# Altium schematic symbol library WE-KI.SchLib: 314 symbols (part 5 of 6)
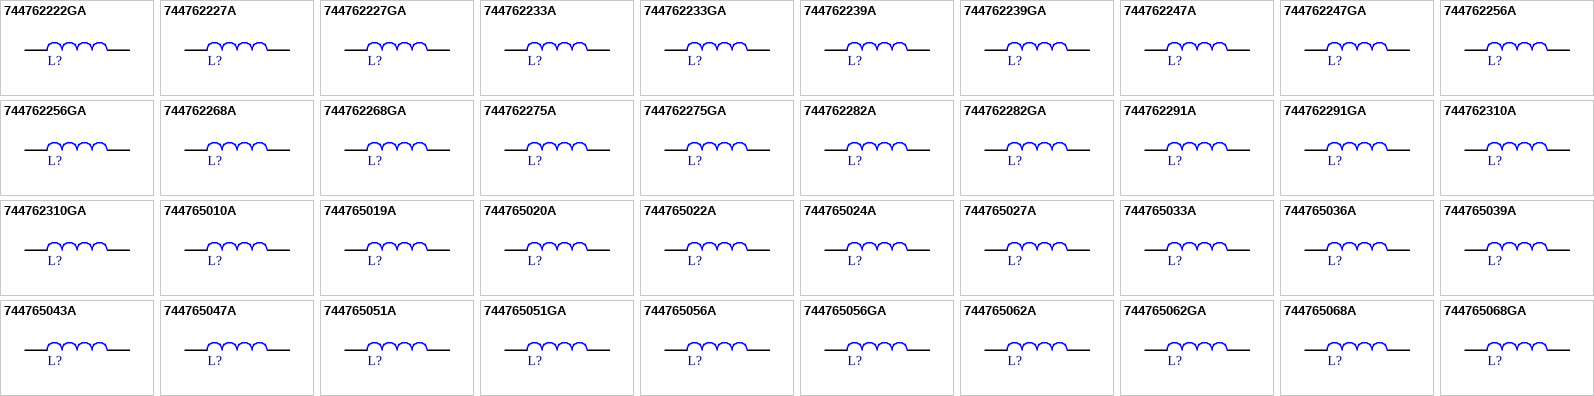
[diagram p11: symbols 744762222GA to 744765068GA]

## 744765024A
designator L?, comment 2.4nH  (value not drawn)
WE-KI SMT Wire Wound Ceramic Inductor, size 0402, 2.4nH, 0.79A, 0.068Ω; Manufacturer Part Number: 744765024A; Manufacturer: Wurth Elektronik; Case/Size Code: 0402; Inductance Tolerance: +/-0.2nH; Q Factor: 16; Self Resonant Frequency: 6000MHz; Category: RF Inductors; Match Code: WE-KI; ComponentLink1Description: Website Link; ComponentLink1URL: https://www.we-online.com/redexpert/article/744765024A?ad; ComponentLink2Description: Datasheet Link; ComponentLink2URL: https://www.we-online.com/redexpert/spec/744765024A?ad; Mount: Surface Mount; Operating Temperature Max: 125°C; Operating Temperature Min: -40°C; Packaging: Tape and Reel; Length: 1mm; Width: 0.55mm; Height: 0.5mm; DC Resistance Max: 0.068Ω; Inductance: 2.4nH; Rated Current: 0.79A
footprint WE-KI_0402
simulation model 0402_744765024A_2.4n
pins: 1, 2

## 744765027A
designator L?, comment 2.7nH  (value not drawn)
WE-KI SMT Wire Wound Ceramic Inductor, size 0402, 2.7nH, 0.64A, 0.12Ω; Manufacturer Part Number: 744765027A; Manufacturer: Wurth Elektronik; Case/Size Code: 0402; Inductance Tolerance: +/-0.2nH; Q Factor: 16; Self Resonant Frequency: 6000MHz; Category: RF Inductors; Match Code: WE-KI; ComponentLink1Description: Website Link; ComponentLink1URL: https://www.we-online.com/redexpert/article/744765027A?ad; ComponentLink2Description: Datasheet Link; ComponentLink2URL: https://www.we-online.com/redexpert/spec/744765027A?ad; Mount: Surface Mount; Operating Temperature Max: 125°C; Operating Temperature Min: -40°C; Packaging: Tape and Reel; Length: 1mm; Width: 0.55mm; Height: 0.5mm; DC Resistance Max: 0.12Ω; Inductance: 2.7nH; Rated Current: 0.64A
footprint WE-KI_0402
simulation model 0402_744765027A_2.7n
pins: 1, 2

## 744765033A
designator L?, comment 3.3nH  (value not drawn)
WE-KI SMT Wire Wound Ceramic Inductor, size 0402, 3.3nH, 0.84A, 0.066Ω; Manufacturer Part Number: 744765033A; Manufacturer: Wurth Elektronik; Case/Size Code: 0402; Inductance Tolerance: +/-5%; Q Factor: 20; Self Resonant Frequency: 6000MHz; Category: RF Inductors; Match Code: WE-KI; ComponentLink1Description: Website Link; ComponentLink1URL: https://www.we-online.com/redexpert/article/744765033A?ad; ComponentLink2Description: Datasheet Link; ComponentLink2URL: https://www.we-online.com/redexpert/spec/744765033A?ad; Mount: Surface Mount; Operating Temperature Max: 125°C; Operating Temperature Min: -40°C; Packaging: Tape and Reel; Length: 1mm; Width: 0.55mm; Height: 0.5mm; DC Resistance Max: 0.066Ω; Inductance: 3.3nH; Rated Current: 0.84A
footprint WE-KI_0402
simulation model 0402_744765033A_3.3n
pins: 1, 2

## 744765036A
designator L?, comment 3.6nH  (value not drawn)
WE-KI SMT Wire Wound Ceramic Inductor, size 0402, 3.6nH, 0.84A, 0.066Ω; Manufacturer Part Number: 744765036A; Manufacturer: Wurth Elektronik; Case/Size Code: 0402; Inductance Tolerance: +/-5%; Q Factor: 20; Self Resonant Frequency: 6000MHz; Category: RF Inductors; Match Code: WE-KI; ComponentLink1Description: Website Link; ComponentLink1URL: https://www.we-online.com/redexpert/article/744765036A?ad; ComponentLink2Description: Datasheet Link; ComponentLink2URL: https://www.we-online.com/redexpert/spec/744765036A?ad; Mount: Surface Mount; Operating Temperature Max: 125°C; Operating Temperature Min: -40°C; Packaging: Tape and Reel; Length: 1mm; Width: 0.55mm; Height: 0.5mm; DC Resistance Max: 0.066Ω; Inductance: 3.6nH; Rated Current: 0.84A
footprint WE-KI_0402
simulation model 0402_744765036A_3.6n
pins: 1, 2

## 744765039A
designator L?, comment 3.9nH  (value not drawn)
WE-KI SMT Wire Wound Ceramic Inductor, size 0402, 3.9nH, 0.84A, 0.066Ω; Manufacturer Part Number: 744765039A; Manufacturer: Wurth Elektronik; Case/Size Code: 0402; Inductance Tolerance: +/-5%; Q Factor: 20; Self Resonant Frequency: 5800MHz; Category: RF Inductors; Match Code: WE-KI; ComponentLink1Description: Website Link; ComponentLink1URL: https://www.we-online.com/redexpert/article/744765039A?ad; ComponentLink2Description: Datasheet Link; ComponentLink2URL: https://www.we-online.com/redexpert/spec/744765039A?ad; Mount: Surface Mount; Operating Temperature Max: 125°C; Operating Temperature Min: -40°C; Packaging: Tape and Reel; Length: 1mm; Width: 0.55mm; Height: 0.5mm; DC Resistance Max: 0.066Ω; Inductance: 3.9nH; Rated Current: 0.84A
footprint WE-KI_0402
simulation model 0402_744765039A_3.9n
pins: 1, 2

## 744765043A
designator L?, comment 4.3nH  (value not drawn)
WE-KI SMT Wire Wound Ceramic Inductor, size 0402, 4.3nH, 0.7A, 0.091Ω; Manufacturer Part Number: 744765043A; Manufacturer: Wurth Elektronik; Case/Size Code: 0402; Inductance Tolerance: +/-5%; Q Factor: 18; Self Resonant Frequency: 6000MHz; Category: RF Inductors; Match Code: WE-KI; ComponentLink1Description: Website Link; ComponentLink1URL: https://www.we-online.com/redexpert/article/744765043A?ad; ComponentLink2Description: Datasheet Link; ComponentLink2URL: https://www.we-online.com/redexpert/spec/744765043A?ad; Mount: Surface Mount; Operating Temperature Max: 125°C; Operating Temperature Min: -40°C; Packaging: Tape and Reel; Length: 1mm; Width: 0.55mm; Height: 0.5mm; DC Resistance Max: 0.091Ω; Inductance: 4.3nH; Rated Current: 0.7A
footprint WE-KI_0402
simulation model 0402_744765043A_4.3n
pins: 1, 2

## 744765047A
designator L?, comment 4.7nH  (value not drawn)
WE-KI SMT Wire Wound Ceramic Inductor, size 0402, 4.7nH, 0.64A, 0.13Ω; Manufacturer Part Number: 744765047A; Manufacturer: Wurth Elektronik; Case/Size Code: 0402; Inductance Tolerance: +/-5%; Q Factor: 15; Self Resonant Frequency: 4775MHz; Category: RF Inductors; Match Code: WE-KI; ComponentLink1Description: Website Link; ComponentLink1URL: https://www.we-online.com/redexpert/article/744765047A?ad; ComponentLink2Description: Datasheet Link; ComponentLink2URL: https://www.we-online.com/redexpert/spec/744765047A?ad; Mount: Surface Mount; Operating Temperature Max: 125°C; Operating Temperature Min: -40°C; Packaging: Tape and Reel; Length: 1mm; Width: 0.55mm; Height: 0.5mm; DC Resistance Max: 0.13Ω; Inductance: 4.7nH; Rated Current: 0.64A
footprint WE-KI_0402
simulation model 0402_744765047A_4.7n
pins: 1, 2

## 744765051A
designator L?, comment 5.1nH  (value not drawn)
WE-KI SMT Wire Wound Ceramic Inductor, size 0402, 5.1nH, 0.8A, 0.083Ω; Manufacturer Part Number: 744765051A; Manufacturer: Wurth Elektronik; Case/Size Code: 0402; Inductance Tolerance: +/-5%; Q Factor: 23; Self Resonant Frequency: 5800MHz; Category: RF Inductors; Match Code: WE-KI; ComponentLink1Description: Website Link; ComponentLink1URL: https://www.we-online.com/redexpert/article/744765051A?ad; ComponentLink2Description: Datasheet Link; ComponentLink2URL: https://www.we-online.com/redexpert/spec/744765051A?ad; Mount: Surface Mount; Operating Temperature Max: 125°C; Operating Temperature Min: -40°C; Packaging: Tape and Reel; Length: 1mm; Width: 0.55mm; Height: 0.5mm; DC Resistance Max: 0.083Ω; Inductance: 5.1nH; Rated Current: 0.8A
footprint WE-KI_0402
simulation model 0402_744765051A_5.1n
pins: 1, 2

## 744765051GA
designator L?, comment 5.1nH  (value not drawn)
WE-KI SMT Wire Wound Ceramic Inductor, size 0402, 5.1nH, 0.8A, 0.083Ω; Manufacturer Part Number: 744765051GA; Manufacturer: Wurth Elektronik; Case/Size Code: 0402; Inductance Tolerance: +/-0.2nH; Q Factor: 23; Self Resonant Frequency: 5800MHz; Category: RF Inductors; Match Code: WE-KI; ComponentLink1Description: Website Link; ComponentLink1URL: https://www.we-online.com/redexpert/article/744765051GA?ad; ComponentLink2Description: Datasheet Link; ComponentLink2URL: https://www.we-online.com/redexpert/spec/744765051GA?ad; Mount: Surface Mount; Operating Temperature Max: 125°C; Operating Temperature Min: -40°C; Packaging: Tape and Reel; Length: 1mm; Width: 0.55mm; Height: 0.5mm; DC Resistance Max: 0.083Ω; Inductance: 5.1nH; Rated Current: 0.8A
footprint WE-KI_0402
simulation model 0402_744765051GA_5.1n
pins: 1, 2

## 744765056A
designator L?, comment 5.6nH  (value not drawn)
WE-KI SMT Wire Wound Ceramic Inductor, size 0402, 5.6nH, 0.76A, 0.083Ω; Manufacturer Part Number: 744765056A; Manufacturer: Wurth Elektronik; Case/Size Code: 0402; Inductance Tolerance: +/-5%; Q Factor: 23; Self Resonant Frequency: 5800MHz; Category: RF Inductors; Match Code: WE-KI; ComponentLink1Description: Website Link; ComponentLink1URL: https://www.we-online.com/redexpert/article/744765056A?ad; ComponentLink2Description: Datasheet Link; ComponentLink2URL: https://www.we-online.com/redexpert/spec/744765056A?ad; Mount: Surface Mount; Operating Temperature Max: 125°C; Operating Temperature Min: -40°C; Packaging: Tape and Reel; Length: 1mm; Width: 0.55mm; Height: 0.5mm; DC Resistance Max: 0.083Ω; Inductance: 5.6nH; Rated Current: 0.76A
footprint WE-KI_0402
simulation model 0402_744765056A_5.6n
pins: 1, 2

## 744765056GA
designator L?, comment 5.6nH  (value not drawn)
WE-KI SMT Wire Wound Ceramic Inductor, size 0402, 5.6nH, 0.76A, 0.083Ω; Manufacturer Part Number: 744765056GA; Manufacturer: Wurth Elektronik; Case/Size Code: 0402; Inductance Tolerance: +/-0.2nH; Q Factor: 23; Self Resonant Frequency: 5800MHz; Category: RF Inductors; Match Code: WE-KI; ComponentLink1Description: Website Link; ComponentLink1URL: https://www.we-online.com/redexpert/article/744765056GA?ad; ComponentLink2Description: Datasheet Link; ComponentLink2URL: https://www.we-online.com/redexpert/spec/744765056GA?ad; Mount: Surface Mount; Operating Temperature Max: 125°C; Operating Temperature Min: -40°C; Packaging: Tape and Reel; Length: 1mm; Width: 0.55mm; Height: 0.5mm; DC Resistance Max: 0.083Ω; Inductance: 5.6nH; Rated Current: 0.76A
footprint WE-KI_0402
simulation model 0402_744765056GA_5.6n
pins: 1, 2

## 744765062A
designator L?, comment 6.2nH  (value not drawn)
WE-KI SMT Wire Wound Ceramic Inductor, size 0402, 6.2nH, 0.76A, 0.083Ω; Manufacturer Part Number: 744765062A; Manufacturer: Wurth Elektronik; Case/Size Code: 0402; Inductance Tolerance: +/-5%; Q Factor: 23; Self Resonant Frequency: 5800MHz; Category: RF Inductors; Match Code: WE-KI; ComponentLink1Description: Website Link; ComponentLink1URL: https://www.we-online.com/redexpert/article/744765062A?ad; ComponentLink2Description: Datasheet Link; ComponentLink2URL: https://www.we-online.com/redexpert/spec/744765062A?ad; Mount: Surface Mount; Operating Temperature Max: 125°C; Operating Temperature Min: -40°C; Packaging: Tape and Reel; Length: 1mm; Width: 0.55mm; Height: 0.5mm; DC Resistance Max: 0.083Ω; Inductance: 6.2nH; Rated Current: 0.76A
footprint WE-KI_0402
simulation model 0402_744765062A_6.2n
pins: 1, 2

## 744765062GA
designator L?, comment 6.2nH  (value not drawn)
WE-KI SMT Wire Wound Ceramic Inductor, size 0402, 6.2nH, 0.75A, 0.083Ω; Manufacturer Part Number: 744765062GA; Manufacturer: Wurth Elektronik; Case/Size Code: 0402; Inductance Tolerance: +/-0.2nH; Q Factor: 23; Self Resonant Frequency: 5800MHz; Category: RF Inductors; Match Code: WE-KI; ComponentLink1Description: Website Link; ComponentLink1URL: https://www.we-online.com/redexpert/article/744765062GA?ad; ComponentLink2Description: Datasheet Link; ComponentLink2URL: https://www.we-online.com/redexpert/spec/744765062GA?ad; Mount: Surface Mount; Operating Temperature Max: 125°C; Operating Temperature Min: -40°C; Packaging: Tape and Reel; Length: 1mm; Width: 0.55mm; Height: 0.5mm; DC Resistance Max: 0.083Ω; Inductance: 6.2nH; Rated Current: 0.75A
footprint WE-KI_0402
simulation model 0402_744765062GA_6.2n
pins: 1, 2

## 744765068A
designator L?, comment 6.8nH  (value not drawn)
WE-KI SMT Wire Wound Ceramic Inductor, size 0402, 6.8nH, 0.68A, 0.083Ω; Manufacturer Part Number: 744765068A; Manufacturer: Wurth Elektronik; Case/Size Code: 0402; Inductance Tolerance: +/-5%; Q Factor: 20; Self Resonant Frequency: 4800MHz; Category: RF Inductors; Match Code: WE-KI; ComponentLink1Description: Website Link; ComponentLink1URL: https://www.we-online.com/redexpert/article/744765068A?ad; ComponentLink2Description: Datasheet Link; ComponentLink2URL: https://www.we-online.com/redexpert/spec/744765068A?ad; Mount: Surface Mount; Operating Temperature Max: 125°C; Operating Temperature Min: -40°C; Packaging: Tape and Reel; Length: 1mm; Width: 0.55mm; Height: 0.5mm; DC Resistance Max: 0.083Ω; Inductance: 6.8nH; Rated Current: 0.68A
footprint WE-KI_0402
simulation model 0402_744765068A_6.8n
pins: 1, 2

## 744765068GA
designator L?, comment 6.8nH  (value not drawn)
WE-KI SMT Wire Wound Ceramic Inductor, size 0402, 6.8nH, 0.68A, 0.083Ω; Manufacturer Part Number: 744765068GA; Manufacturer: Wurth Elektronik; Case/Size Code: 0402; Inductance Tolerance: +/-0.2nH; Q Factor: 20; Self Resonant Frequency: 4800MHz; Category: RF Inductors; Match Code: WE-KI; ComponentLink1Description: Website Link; ComponentLink1URL: https://www.we-online.com/redexpert/article/744765068GA?ad; ComponentLink2Description: Datasheet Link; ComponentLink2URL: https://www.we-online.com/redexpert/spec/744765068GA?ad; Mount: Surface Mount; Operating Temperature Max: 125°C; Operating Temperature Min: -40°C; Packaging: Tape and Reel; Length: 1mm; Width: 0.55mm; Height: 0.5mm; DC Resistance Max: 0.083Ω; Inductance: 6.8nH; Rated Current: 0.68A
footprint WE-KI_0402
simulation model 0402_744765068GA_6.8n
pins: 1, 2

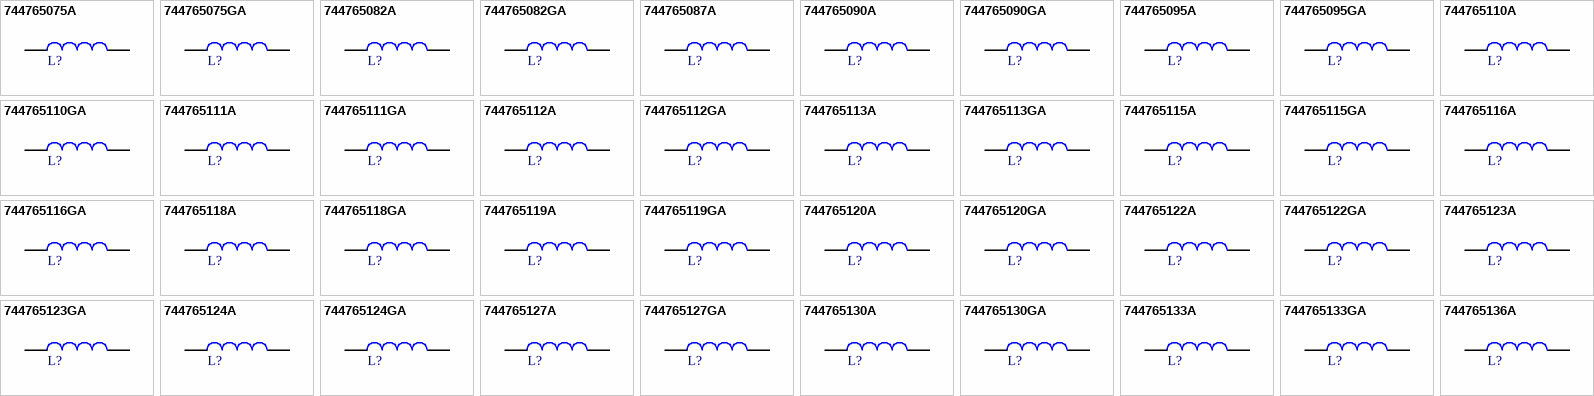
[diagram p6: symbols 744765075A to 744765136A]

## 744765075A
designator L?, comment 7.5nH  (value not drawn)
WE-KI SMT Wire Wound Ceramic Inductor, size 0402, 7.5nH, 0.68A, 0.104Ω; Manufacturer Part Number: 744765075A; Manufacturer: Wurth Elektronik; Case/Size Code: 0402; Inductance Tolerance: +/-5%; Q Factor: 25; Self Resonant Frequency: 5800MHz; Category: RF Inductors; Match Code: WE-KI; ComponentLink1Description: Website Link; ComponentLink1URL: https://www.we-online.com/redexpert/article/744765075A?ad; ComponentLink2Description: Datasheet Link; ComponentLink2URL: https://www.we-online.com/redexpert/spec/744765075A?ad; Mount: Surface Mount; Operating Temperature Max: 125°C; Operating Temperature Min: -40°C; Packaging: Tape and Reel; Length: 1mm; Width: 0.55mm; Height: 0.5mm; DC Resistance Max: 0.104Ω; Inductance: 7.5nH; Rated Current: 0.68A
footprint WE-KI_0402
simulation model 0402_744765075A_7.5n
pins: 1, 2

## 744765075GA
designator L?, comment 7.5nH  (value not drawn)
WE-KI SMT Wire Wound Ceramic Inductor, size 0402, 7.5nH, 0.68A, 0.104Ω; Manufacturer Part Number: 744765075GA; Manufacturer: Wurth Elektronik; Case/Size Code: 0402; Inductance Tolerance: +/-0.2nH; Q Factor: 25; Self Resonant Frequency: 5800MHz; Category: RF Inductors; Match Code: WE-KI; ComponentLink1Description: Website Link; ComponentLink1URL: https://www.we-online.com/redexpert/article/744765075GA?ad; ComponentLink2Description: Datasheet Link; ComponentLink2URL: https://www.we-online.com/redexpert/spec/744765075GA?ad; Mount: Surface Mount; Operating Temperature Max: 125°C; Operating Temperature Min: -40°C; Packaging: Tape and Reel; Length: 1mm; Width: 0.55mm; Height: 0.5mm; DC Resistance Max: 0.104Ω; Inductance: 7.5nH; Rated Current: 0.68A
footprint WE-KI_0402
simulation model 0402_744765075GA_7.5n
pins: 1, 2

## 744765082A
designator L?, comment 8.2nH  (value not drawn)
WE-KI SMT Wire Wound Ceramic Inductor, size 0402, 8.2nH, 0.68A, 0.104Ω; Manufacturer Part Number: 744765082A; Manufacturer: Wurth Elektronik; Case/Size Code: 0402; Inductance Tolerance: +/-5%; Q Factor: 25; Self Resonant Frequency: 4400MHz; Category: RF Inductors; Match Code: WE-KI; ComponentLink1Description: Website Link; ComponentLink1URL: https://www.we-online.com/redexpert/article/744765082A?ad; ComponentLink2Description: Datasheet Link; ComponentLink2URL: https://www.we-online.com/redexpert/spec/744765082A?ad; Mount: Surface Mount; Operating Temperature Max: 125°C; Operating Temperature Min: -40°C; Packaging: Tape and Reel; Length: 1mm; Width: 0.55mm; Height: 0.5mm; DC Resistance Max: 0.104Ω; Inductance: 8.2nH; Rated Current: 0.68A
footprint WE-KI_0402
simulation model 0402_744765082A_8.2n
pins: 1, 2

## 744765082GA
designator L?, comment 8.2nH  (value not drawn)
WE-KI SMT Wire Wound Ceramic Inductor, size 0402, 8.2nH, 0.68A, 0.104Ω; Manufacturer Part Number: 744765082GA; Manufacturer: Wurth Elektronik; Case/Size Code: 0402; Inductance Tolerance: +/-0.2nH; Q Factor: 25; Self Resonant Frequency: 4400MHz; Category: RF Inductors; Match Code: WE-KI; ComponentLink1Description: Website Link; ComponentLink1URL: https://www.we-online.com/redexpert/article/744765082GA?ad; ComponentLink2Description: Datasheet Link; ComponentLink2URL: https://www.we-online.com/redexpert/spec/744765082GA?ad; Mount: Surface Mount; Operating Temperature Max: 125°C; Operating Temperature Min: -40°C; Packaging: Tape and Reel; Length: 1mm; Width: 0.55mm; Height: 0.5mm; DC Resistance Max: 0.104Ω; Inductance: 8.2nH; Rated Current: 0.68A
footprint WE-KI_0402
simulation model 0402_744765082GA_8.2n
pins: 1, 2

## 744765087A
designator L?, comment 8.7nH  (value not drawn)
WE-KI SMT Wire Wound Ceramic Inductor, size 0402, 8.7nH, 0.48A, 0.2Ω; Manufacturer Part Number: 744765087A; Manufacturer: Wurth Elektronik; Case/Size Code: 0402; Inductance Tolerance: +/-5%; Q Factor: 18; Self Resonant Frequency: 4100MHz; Category: RF Inductors; Match Code: WE-KI; ComponentLink1Description: Website Link; ComponentLink1URL: https://www.we-online.com/redexpert/article/744765087A?ad; ComponentLink2Description: Datasheet Link; ComponentLink2URL: https://www.we-online.com/redexpert/spec/744765087A?ad; Mount: Surface Mount; Operating Temperature Max: 125°C; Operating Temperature Min: -40°C; Packaging: Tape and Reel; Length: 1mm; Width: 0.55mm; Height: 0.5mm; DC Resistance Max: 0.2Ω; Inductance: 8.7nH; Rated Current: 0.48A
footprint WE-KI_0402
simulation model 0402_744765087A_8.7n
pins: 1, 2

## 744765090A
designator L?, comment 9nH  (value not drawn)
WE-KI SMT Wire Wound Ceramic Inductor, size 0402, 9nH, 0.68A, 0.104Ω; Manufacturer Part Number: 744765090A; Manufacturer: Wurth Elektronik; Case/Size Code: 0402; Inductance Tolerance: +/-5%; Q Factor: 25; Self Resonant Frequency: 4160MHz; Category: RF Inductors; Match Code: WE-KI; ComponentLink1Description: Website Link; ComponentLink1URL: https://www.we-online.com/redexpert/article/744765090A?ad; ComponentLink2Description: Datasheet Link; ComponentLink2URL: https://www.we-online.com/redexpert/spec/744765090A?ad; Mount: Surface Mount; Operating Temperature Max: 125°C; Operating Temperature Min: -40°C; Packaging: Tape and Reel; Length: 1mm; Width: 0.55mm; Height: 0.5mm; DC Resistance Max: 0.104Ω; Inductance: 9nH; Rated Current: 0.68A
footprint WE-KI_0402
simulation model 0402_744765090A_9n
pins: 1, 2

## 744765090GA
designator L?, comment 9nH  (value not drawn)
WE-KI SMT Wire Wound Ceramic Inductor, size 0402, 9nH, 0.68A, 0.104Ω; Manufacturer Part Number: 744765090GA; Manufacturer: Wurth Elektronik; Case/Size Code: 0402; Inductance Tolerance: +/-0.2nH; Q Factor: 25; Self Resonant Frequency: 4160MHz; Category: RF Inductors; Match Code: WE-KI; ComponentLink1Description: Website Link; ComponentLink1URL: https://www.we-online.com/redexpert/article/744765090GA?ad; ComponentLink2Description: Datasheet Link; ComponentLink2URL: https://www.we-online.com/redexpert/spec/744765090GA?ad; Mount: Surface Mount; Operating Temperature Max: 125°C; Operating Temperature Min: -40°C; Packaging: Tape and Reel; Length: 1mm; Width: 0.55mm; Height: 0.5mm; DC Resistance Max: 0.104Ω; Inductance: 9nH; Rated Current: 0.68A
footprint WE-KI_0402
simulation model 0402_744765090GA_9n
pins: 1, 2

## 744765095A
designator L?, comment 9.5nH  (value not drawn)
WE-KI SMT Wire Wound Ceramic Inductor, size 0402, 9.5nH, 0.68A, 0.2Ω; Manufacturer Part Number: 744765095A; Manufacturer: Wurth Elektronik; Case/Size Code: 0402; Inductance Tolerance: +/-5%; Q Factor: 18; Self Resonant Frequency: 4000MHz; Category: RF Inductors; Match Code: WE-KI; ComponentLink1Description: Website Link; ComponentLink1URL: https://www.we-online.com/redexpert/article/744765095A?ad; ComponentLink2Description: Datasheet Link; ComponentLink2URL: https://www.we-online.com/redexpert/spec/744765095A?ad; Mount: Surface Mount; Operating Temperature Max: 125°C; Operating Temperature Min: -40°C; Packaging: Tape and Reel; Length: 1mm; Width: 0.55mm; Height: 0.5mm; DC Resistance Max: 0.2Ω; Inductance: 9.5nH; Rated Current: 0.68A
footprint WE-KI_0402
simulation model 0402_744765095A_9.5n
pins: 1, 2

## 744765095GA
designator L?, comment 9.5nH  (value not drawn)
WE-KI SMT Wire Wound Ceramic Inductor, size 0402, 9.5nH, 0.68A, 0.2Ω; Manufacturer Part Number: 744765095GA; Manufacturer: Wurth Elektronik; Case/Size Code: 0402; Inductance Tolerance: +/-0.2nH; Q Factor: 18; Self Resonant Frequency: 4000MHz; Category: RF Inductors; Match Code: WE-KI; ComponentLink1Description: Website Link; ComponentLink1URL: https://www.we-online.com/redexpert/article/744765095GA?ad; ComponentLink2Description: Datasheet Link; ComponentLink2URL: https://www.we-online.com/redexpert/spec/744765095GA?ad; Mount: Surface Mount; Operating Temperature Max: 125°C; Operating Temperature Min: -40°C; Packaging: Tape and Reel; Length: 1mm; Width: 0.55mm; Height: 0.5mm; DC Resistance Max: 0.2Ω; Inductance: 9.5nH; Rated Current: 0.68A
footprint WE-KI_0402
simulation model 0402_744765095GA_9.5n
pins: 1, 2

## 744765110A
designator L?, comment 10nH  (value not drawn)
WE-KI SMT Wire Wound Ceramic Inductor, size 0402, 10nH, 0.48A, 0.195Ω; Manufacturer Part Number: 744765110A; Manufacturer: Wurth Elektronik; Case/Size Code: 0402; Inductance Tolerance: +/-5%; Q Factor: 23; Self Resonant Frequency: 3900MHz; Category: RF Inductors; Match Code: WE-KI; ComponentLink1Description: Website Link; ComponentLink1URL: https://www.we-online.com/redexpert/article/744765110A?ad; ComponentLink2Description: Datasheet Link; ComponentLink2URL: https://www.we-online.com/redexpert/spec/744765110A?ad; Mount: Surface Mount; Operating Temperature Max: 125°C; Operating Temperature Min: -40°C; Packaging: Tape and Reel; Length: 1mm; Width: 0.55mm; Height: 0.5mm; DC Resistance Max: 0.195Ω; Inductance: 10nH; Rated Current: 0.48A
footprint WE-KI_0402
simulation model 0402_744765110A_10n
pins: 1, 2

## 744765110GA
designator L?, comment 10nH  (value not drawn)
WE-KI SMT Wire Wound Ceramic Inductor, size 0402, 10nH, 0.48A, 0.195Ω; Manufacturer Part Number: 744765110GA; Manufacturer: Wurth Elektronik; Case/Size Code: 0402; Inductance Tolerance: +/-2%; Q Factor: 23; Self Resonant Frequency: 3900MHz; Category: RF Inductors; Match Code: WE-KI; ComponentLink1Description: Website Link; ComponentLink1URL: https://www.we-online.com/redexpert/article/744765110GA?ad; ComponentLink2Description: Datasheet Link; ComponentLink2URL: https://www.we-online.com/redexpert/spec/744765110GA?ad; Mount: Surface Mount; Operating Temperature Max: 125°C; Operating Temperature Min: -40°C; Packaging: Tape and Reel; Length: 1mm; Width: 0.55mm; Height: 0.5mm; DC Resistance Max: 0.195Ω; Inductance: 10nH; Rated Current: 0.48A
footprint WE-KI_0402
simulation model 0402_744765110GA_10n
pins: 1, 2

## 744765111A
designator L?, comment 11nH  (value not drawn)
WE-KI SMT Wire Wound Ceramic Inductor, size 0402, 11nH, 0.64A, 0.12Ω; Manufacturer Part Number: 744765111A; Manufacturer: Wurth Elektronik; Case/Size Code: 0402; Inductance Tolerance: +/-5%; Q Factor: 26; Self Resonant Frequency: 3680MHz; Category: RF Inductors; Match Code: WE-KI; ComponentLink1Description: Website Link; ComponentLink1URL: https://www.we-online.com/redexpert/article/744765111A?ad; ComponentLink2Description: Datasheet Link; ComponentLink2URL: https://www.we-online.com/redexpert/spec/744765111A?ad; Mount: Surface Mount; Operating Temperature Max: 125°C; Operating Temperature Min: -40°C; Packaging: Tape and Reel; Length: 1mm; Width: 0.55mm; Height: 0.5mm; DC Resistance Max: 0.12Ω; Inductance: 11nH; Rated Current: 0.64A
footprint WE-KI_0402
simulation model 0402_744765111A_11n
pins: 1, 2

## 744765111GA
designator L?, comment 11nH  (value not drawn)
WE-KI SMT Wire Wound Ceramic Inductor, size 0402, 11nH, 0.64A, 0.12Ω; Manufacturer Part Number: 744765111GA; Manufacturer: Wurth Elektronik; Case/Size Code: 0402; Inductance Tolerance: +/-2%; Q Factor: 26; Self Resonant Frequency: 3680MHz; Category: RF Inductors; Match Code: WE-KI; ComponentLink1Description: Website Link; ComponentLink1URL: https://www.we-online.com/redexpert/article/744765111GA?ad; ComponentLink2Description: Datasheet Link; ComponentLink2URL: https://www.we-online.com/redexpert/spec/744765111GA?ad; Mount: Surface Mount; Operating Temperature Max: 125°C; Operating Temperature Min: -40°C; Packaging: Tape and Reel; Length: 1mm; Width: 0.55mm; Height: 0.5mm; DC Resistance Max: 0.12Ω; Inductance: 11nH; Rated Current: 0.64A
footprint WE-KI_0402
simulation model 0402_744765111GA_11n
pins: 1, 2

## 744765112A
designator L?, comment 12nH  (value not drawn)
WE-KI SMT Wire Wound Ceramic Inductor, size 0402, 12nH, 0.64A, 0.12Ω; Manufacturer Part Number: 744765112A; Manufacturer: Wurth Elektronik; Case/Size Code: 0402; Inductance Tolerance: +/-5%; Q Factor: 26; Self Resonant Frequency: 3600MHz; Category: RF Inductors; Match Code: WE-KI; ComponentLink1Description: Website Link; ComponentLink1URL: https://www.we-online.com/redexpert/article/744765112A?ad; ComponentLink2Description: Datasheet Link; ComponentLink2URL: https://www.we-online.com/redexpert/spec/744765112A?ad; Mount: Surface Mount; Operating Temperature Max: 125°C; Operating Temperature Min: -40°C; Packaging: Tape and Reel; Length: 1mm; Width: 0.55mm; Height: 0.5mm; DC Resistance Max: 0.12Ω; Inductance: 12nH; Rated Current: 0.64A
footprint WE-KI_0402
simulation model 0402_744765112A_12n
pins: 1, 2

## 744765112GA
designator L?, comment 12nH  (value not drawn)
WE-KI SMT Wire Wound Ceramic Inductor, size 0402, 12nH, 0.64A, 0.12Ω; Manufacturer Part Number: 744765112GA; Manufacturer: Wurth Elektronik; Case/Size Code: 0402; Inductance Tolerance: +/-2%; Q Factor: 26; Self Resonant Frequency: 3600MHz; Category: RF Inductors; Match Code: WE-KI; ComponentLink1Description: Website Link; ComponentLink1URL: https://www.we-online.com/redexpert/article/744765112GA?ad; ComponentLink2Description: Datasheet Link; ComponentLink2URL: https://www.we-online.com/redexpert/spec/744765112GA?ad; Mount: Surface Mount; Operating Temperature Max: 125°C; Operating Temperature Min: -40°C; Packaging: Tape and Reel; Length: 1mm; Width: 0.55mm; Height: 0.5mm; DC Resistance Max: 0.12Ω; Inductance: 12nH; Rated Current: 0.64A
footprint WE-KI_0402
simulation model 0402_744765112GA_12n
pins: 1, 2

## 744765113A
designator L?, comment 13nH  (value not drawn)
WE-KI SMT Wire Wound Ceramic Inductor, size 0402, 13nH, 0.56A, 0.21Ω; Manufacturer Part Number: 744765113A; Manufacturer: Wurth Elektronik; Case/Size Code: 0402; Inductance Tolerance: +/-5%; Q Factor: 24; Self Resonant Frequency: 3450MHz; Category: RF Inductors; Match Code: WE-KI; ComponentLink1Description: Website Link; ComponentLink1URL: https://www.we-online.com/redexpert/article/744765113A?ad; ComponentLink2Description: Datasheet Link; ComponentLink2URL: https://www.we-online.com/redexpert/spec/744765113A?ad; Mount: Surface Mount; Operating Temperature Max: 125°C; Operating Temperature Min: -40°C; Packaging: Tape and Reel; Length: 1mm; Width: 0.55mm; Height: 0.5mm; DC Resistance Max: 0.21Ω; Inductance: 13nH; Rated Current: 0.56A
footprint WE-KI_0402
simulation model 0402_744765113A_13n
pins: 1, 2

## 744765113GA
designator L?, comment 13nH  (value not drawn)
WE-KI SMT Wire Wound Ceramic Inductor, size 0402, 13nH, 0.56A, 0.21Ω; Manufacturer Part Number: 744765113GA; Manufacturer: Wurth Elektronik; Case/Size Code: 0402; Inductance Tolerance: +/-2%; Q Factor: 24; Self Resonant Frequency: 3450MHz; Category: RF Inductors; Match Code: WE-KI; ComponentLink1Description: Website Link; ComponentLink1URL: https://www.we-online.com/redexpert/article/744765113GA?ad; ComponentLink2Description: Datasheet Link; ComponentLink2URL: https://www.we-online.com/redexpert/spec/744765113GA?ad; Mount: Surface Mount; Operating Temperature Max: 125°C; Operating Temperature Min: -40°C; Packaging: Tape and Reel; Length: 1mm; Width: 0.55mm; Height: 0.5mm; DC Resistance Max: 0.21Ω; Inductance: 13nH; Rated Current: 0.56A
footprint WE-KI_0402
simulation model 0402_744765113GA_13n
pins: 1, 2

## 744765115A
designator L?, comment 15nH  (value not drawn)
WE-KI SMT Wire Wound Ceramic Inductor, size 0402, 15nH, 0.56A, 0.172Ω; Manufacturer Part Number: 744765115A; Manufacturer: Wurth Elektronik; Case/Size Code: 0402; Inductance Tolerance: +/-5%; Q Factor: 26; Self Resonant Frequency: 3280MHz; Category: RF Inductors; Match Code: WE-KI; ComponentLink1Description: Website Link; ComponentLink1URL: https://www.we-online.com/redexpert/article/744765115A?ad; ComponentLink2Description: Datasheet Link; ComponentLink2URL: https://www.we-online.com/redexpert/spec/744765115A?ad; Mount: Surface Mount; Operating Temperature Max: 125°C; Operating Temperature Min: -40°C; Packaging: Tape and Reel; Length: 1mm; Width: 0.55mm; Height: 0.5mm; DC Resistance Max: 0.172Ω; Inductance: 15nH; Rated Current: 0.56A
footprint WE-KI_0402
simulation model 0402_744765115A_15n
pins: 1, 2

## 744765115GA
designator L?, comment 15nH  (value not drawn)
WE-KI SMT Wire Wound Ceramic Inductor, size 0402, 15nH, 0.56A, 0.172Ω; Manufacturer Part Number: 744765115GA; Manufacturer: Wurth Elektronik; Case/Size Code: 0402; Inductance Tolerance: +/-2%; Q Factor: 26; Self Resonant Frequency: 3280MHz; Category: RF Inductors; Match Code: WE-KI; ComponentLink1Description: Website Link; ComponentLink1URL: https://www.we-online.com/redexpert/article/744765115GA?ad; ComponentLink2Description: Datasheet Link; ComponentLink2URL: https://www.we-online.com/redexpert/spec/744765115GA?ad; Mount: Surface Mount; Operating Temperature Max: 125°C; Operating Temperature Min: -40°C; Packaging: Tape and Reel; Length: 1mm; Width: 0.55mm; Height: 0.5mm; DC Resistance Max: 0.172Ω; Inductance: 15nH; Rated Current: 0.56A
footprint WE-KI_0402
simulation model 0402_744765115GA_15n
pins: 1, 2

## 744765116A
designator L?, comment 16nH  (value not drawn)
WE-KI SMT Wire Wound Ceramic Inductor, size 0402, 16nH, 0.56A, 0.22Ω; Manufacturer Part Number: 744765116A; Manufacturer: Wurth Elektronik; Case/Size Code: 0402; Inductance Tolerance: +/-5%; Q Factor: 24; Self Resonant Frequency: 3100MHz; Category: RF Inductors; Match Code: WE-KI; ComponentLink1Description: Website Link; ComponentLink1URL: https://www.we-online.com/redexpert/article/744765116A?ad; ComponentLink2Description: Datasheet Link; ComponentLink2URL: https://www.we-online.com/redexpert/spec/744765116A?ad; Mount: Surface Mount; Operating Temperature Max: 125°C; Operating Temperature Min: -40°C; Packaging: Tape and Reel; Length: 1mm; Width: 0.55mm; Height: 0.5mm; DC Resistance Max: 0.22Ω; Inductance: 16nH; Rated Current: 0.56A
footprint WE-KI_0402
simulation model 0402_744765116A_16n
pins: 1, 2

## 744765116GA
designator L?, comment 16nH  (value not drawn)
WE-KI SMT Wire Wound Ceramic Inductor, size 0402, 16nH, 0.46A, 0.22Ω; Manufacturer Part Number: 744765116GA; Manufacturer: Wurth Elektronik; Case/Size Code: 0402; Inductance Tolerance: +/-2%; Q Factor: 24; Self Resonant Frequency: 3100MHz; Category: RF Inductors; Match Code: WE-KI; ComponentLink1Description: Website Link; ComponentLink1URL: https://www.we-online.com/redexpert/article/744765116GA?ad; ComponentLink2Description: Datasheet Link; ComponentLink2URL: https://www.we-online.com/redexpert/spec/744765116GA?ad; Mount: Surface Mount; Operating Temperature Max: 125°C; Operating Temperature Min: -40°C; Packaging: Tape and Reel; Length: 1mm; Width: 0.55mm; Height: 0.5mm; DC Resistance Max: 0.22Ω; Inductance: 16nH; Rated Current: 0.46A
footprint WE-KI_0402
simulation model 0402_744765116GA_16n
pins: 1, 2

## 744765118A
designator L?, comment 18nH  (value not drawn)
WE-KI SMT Wire Wound Ceramic Inductor, size 0402, 18nH, 0.42A, 0.23Ω; Manufacturer Part Number: 744765118A; Manufacturer: Wurth Elektronik; Case/Size Code: 0402; Inductance Tolerance: +/-5%; Q Factor: 25; Self Resonant Frequency: 3100MHz; Category: RF Inductors; Match Code: WE-KI; ComponentLink1Description: Website Link; ComponentLink1URL: https://www.we-online.com/redexpert/article/744765118A?ad; ComponentLink2Description: Datasheet Link; ComponentLink2URL: https://www.we-online.com/redexpert/spec/744765118A?ad; Mount: Surface Mount; Operating Temperature Max: 125°C; Operating Temperature Min: -40°C; Packaging: Tape and Reel; Length: 1mm; Width: 0.55mm; Height: 0.5mm; DC Resistance Max: 0.23Ω; Inductance: 18nH; Rated Current: 0.42A
footprint WE-KI_0402
simulation model 0402_744765118A_18n
pins: 1, 2

## 744765118GA
designator L?, comment 18nH  (value not drawn)
WE-KI SMT Wire Wound Ceramic Inductor, size 0402, 18nH, 0.42A, 0.23Ω; Manufacturer Part Number: 744765118GA; Manufacturer: Wurth Elektronik; Case/Size Code: 0402; Inductance Tolerance: +/-2%; Q Factor: 25; Self Resonant Frequency: 3100MHz; Category: RF Inductors; Match Code: WE-KI; ComponentLink1Description: Website Link; ComponentLink1URL: https://www.we-online.com/redexpert/article/744765118GA?ad; ComponentLink2Description: Datasheet Link; ComponentLink2URL: https://www.we-online.com/redexpert/spec/744765118GA?ad; Mount: Surface Mount; Operating Temperature Max: 125°C; Operating Temperature Min: -40°C; Packaging: Tape and Reel; Length: 1mm; Width: 0.55mm; Height: 0.5mm; DC Resistance Max: 0.23Ω; Inductance: 18nH; Rated Current: 0.42A
footprint WE-KI_0402
simulation model 0402_744765118GA_18n
pins: 1, 2

## 744765119A
designator L?, comment 19nH  (value not drawn)
WE-KI SMT Wire Wound Ceramic Inductor, size 0402, 19nH, 0.48A, 0.202Ω; Manufacturer Part Number: 744765119A; Manufacturer: Wurth Elektronik; Case/Size Code: 0402; Inductance Tolerance: +/-5%; Q Factor: 26; Self Resonant Frequency: 3040MHz; Category: RF Inductors; Match Code: WE-KI; ComponentLink1Description: Website Link; ComponentLink1URL: https://www.we-online.com/redexpert/article/744765119A?ad; ComponentLink2Description: Datasheet Link; ComponentLink2URL: https://www.we-online.com/redexpert/spec/744765119A?ad; Mount: Surface Mount; Operating Temperature Max: 125°C; Operating Temperature Min: -40°C; Packaging: Tape and Reel; Length: 1mm; Width: 0.55mm; Height: 0.5mm; DC Resistance Max: 0.202Ω; Inductance: 19nH; Rated Current: 0.48A
footprint WE-KI_0402
simulation model 0402_744765119A_19n
pins: 1, 2

## 744765119GA
designator L?, comment 19nH  (value not drawn)
WE-KI SMT Wire Wound Ceramic Inductor, size 0402, 19nH, 0.48A, 0.202Ω; Manufacturer Part Number: 744765119GA; Manufacturer: Wurth Elektronik; Case/Size Code: 0402; Inductance Tolerance: +/-2%; Q Factor: 26; Self Resonant Frequency: 3040MHz; Category: RF Inductors; Match Code: WE-KI; ComponentLink1Description: Website Link; ComponentLink1URL: https://www.we-online.com/redexpert/article/744765119GA?ad; ComponentLink2Description: Datasheet Link; ComponentLink2URL: https://www.we-online.com/redexpert/spec/744765119GA?ad; Mount: Surface Mount; Operating Temperature Max: 125°C; Operating Temperature Min: -40°C; Packaging: Tape and Reel; Length: 1mm; Width: 0.55mm; Height: 0.5mm; DC Resistance Max: 0.202Ω; Inductance: 19nH; Rated Current: 0.48A
footprint WE-KI_0402
simulation model 0402_744765119GA_19n
pins: 1, 2

## 744765120A
designator L?, comment 20nH  (value not drawn)
WE-KI SMT Wire Wound Ceramic Inductor, size 0402, 20nH, 0.42A, 0.25Ω; Manufacturer Part Number: 744765120A; Manufacturer: Wurth Elektronik; Case/Size Code: 0402; Inductance Tolerance: +/-5%; Q Factor: 25; Self Resonant Frequency: 3000MHz; Category: RF Inductors; Match Code: WE-KI; ComponentLink1Description: Website Link; ComponentLink1URL: https://www.we-online.com/redexpert/article/744765120A?ad; ComponentLink2Description: Datasheet Link; ComponentLink2URL: https://www.we-online.com/redexpert/spec/744765120A?ad; Mount: Surface Mount; Operating Temperature Max: 125°C; Operating Temperature Min: -40°C; Packaging: Tape and Reel; Length: 1mm; Width: 0.55mm; Height: 0.5mm; DC Resistance Max: 0.25Ω; Inductance: 20nH; Rated Current: 0.42A
footprint WE-KI_0402
simulation model 0402_744765120A_20n
pins: 1, 2

## 744765120GA
designator L?, comment 20nH  (value not drawn)
WE-KI SMT Wire Wound Ceramic Inductor, size 0402, 20nH, 0.42A, 0.25Ω; Manufacturer Part Number: 744765120GA; Manufacturer: Wurth Elektronik; Case/Size Code: 0402; Inductance Tolerance: +/-2%; Q Factor: 25; Self Resonant Frequency: 3000MHz; Category: RF Inductors; Match Code: WE-KI; ComponentLink1Description: Website Link; ComponentLink1URL: https://www.we-online.com/redexpert/article/744765120GA?ad; ComponentLink2Description: Datasheet Link; ComponentLink2URL: https://www.we-online.com/redexpert/spec/744765120GA?ad; Mount: Surface Mount; Operating Temperature Max: 125°C; Operating Temperature Min: -40°C; Packaging: Tape and Reel; Length: 1mm; Width: 0.55mm; Height: 0.5mm; DC Resistance Max: 0.25Ω; Inductance: 20nH; Rated Current: 0.42A
footprint WE-KI_0402
simulation model 0402_744765120GA_20n
pins: 1, 2

## 744765122A
designator L?, comment 22nH  (value not drawn)
WE-KI SMT Wire Wound Ceramic Inductor, size 0402, 22nH, 0.4A, 0.3Ω; Manufacturer Part Number: 744765122A; Manufacturer: Wurth Elektronik; Case/Size Code: 0402; Inductance Tolerance: +/-5%; Q Factor: 25; Self Resonant Frequency: 2800MHz; Category: RF Inductors; Match Code: WE-KI; ComponentLink1Description: Website Link; ComponentLink1URL: https://www.we-online.com/redexpert/article/744765122A?ad; ComponentLink2Description: Datasheet Link; ComponentLink2URL: https://www.we-online.com/redexpert/spec/744765122A?ad; Mount: Surface Mount; Operating Temperature Max: 125°C; Operating Temperature Min: -40°C; Packaging: Tape and Reel; Length: 1mm; Width: 0.55mm; Height: 0.5mm; DC Resistance Max: 0.3Ω; Inductance: 22nH; Rated Current: 0.4A
footprint WE-KI_0402
simulation model 0402_744765122A_22n
pins: 1, 2

## 744765122GA
designator L?, comment 22nH  (value not drawn)
WE-KI SMT Wire Wound Ceramic Inductor, size 0402, 22nH, 0.4A, 0.3Ω; Manufacturer Part Number: 744765122GA; Manufacturer: Wurth Elektronik; Case/Size Code: 0402; Inductance Tolerance: +/-2%; Q Factor: 25; Self Resonant Frequency: 2800MHz; Category: RF Inductors; Match Code: WE-KI; ComponentLink1Description: Website Link; ComponentLink1URL: https://www.we-online.com/redexpert/article/744765122GA?ad; ComponentLink2Description: Datasheet Link; ComponentLink2URL: https://www.we-online.com/redexpert/spec/744765122GA?ad; Mount: Surface Mount; Operating Temperature Max: 125°C; Operating Temperature Min: -40°C; Packaging: Tape and Reel; Length: 1mm; Width: 0.55mm; Height: 0.5mm; DC Resistance Max: 0.3Ω; Inductance: 22nH; Rated Current: 0.4A
footprint WE-KI_0402
simulation model 0402_744765122GA_22n
pins: 1, 2

## 744765123A
designator L?, comment 23nH  (value not drawn)
WE-KI SMT Wire Wound Ceramic Inductor, size 0402, 23nH, 0.4A, 0.214Ω; Manufacturer Part Number: 744765123A; Manufacturer: Wurth Elektronik; Case/Size Code: 0402; Inductance Tolerance: +/-5%; Q Factor: 26; Self Resonant Frequency: 2720MHz; Category: RF Inductors; Match Code: WE-KI; ComponentLink1Description: Website Link; ComponentLink1URL: https://www.we-online.com/redexpert/article/744765123A?ad; ComponentLink2Description: Datasheet Link; ComponentLink2URL: https://www.we-online.com/redexpert/spec/744765123A?ad; Mount: Surface Mount; Operating Temperature Max: 125°C; Operating Temperature Min: -40°C; Packaging: Tape and Reel; Length: 1mm; Width: 0.55mm; Height: 0.5mm; DC Resistance Max: 0.214Ω; Inductance: 23nH; Rated Current: 0.4A
footprint WE-KI_0402
simulation model 0402_744765123A_23n
pins: 1, 2

## 744765123GA
designator L?, comment 23nH  (value not drawn)
WE-KI SMT Wire Wound Ceramic Inductor, size 0402, 23nH, 0.4A, 0.214Ω; Manufacturer Part Number: 744765123GA; Manufacturer: Wurth Elektronik; Case/Size Code: 0402; Inductance Tolerance: +/-2%; Q Factor: 26; Self Resonant Frequency: 2720MHz; Category: RF Inductors; Match Code: WE-KI; ComponentLink1Description: Website Link; ComponentLink1URL: https://www.we-online.com/redexpert/article/744765123GA?ad; ComponentLink2Description: Datasheet Link; ComponentLink2URL: https://www.we-online.com/redexpert/spec/744765123GA?ad; Mount: Surface Mount; Operating Temperature Max: 125°C; Operating Temperature Min: -40°C; Packaging: Tape and Reel; Length: 1mm; Width: 0.55mm; Height: 0.5mm; DC Resistance Max: 0.214Ω; Inductance: 23nH; Rated Current: 0.4A
footprint WE-KI_0402
simulation model 0402_744765123GA_23n
pins: 1, 2

## 744765124A
designator L?, comment 24nH  (value not drawn)
WE-KI SMT Wire Wound Ceramic Inductor, size 0402, 24nH, 0.4A, 0.3Ω; Manufacturer Part Number: 744765124A; Manufacturer: Wurth Elektronik; Case/Size Code: 0402; Inductance Tolerance: +/-5%; Q Factor: 25; Self Resonant Frequency: 2700MHz; Category: RF Inductors; Match Code: WE-KI; ComponentLink1Description: Website Link; ComponentLink1URL: https://www.we-online.com/redexpert/article/744765124A?ad; ComponentLink2Description: Datasheet Link; ComponentLink2URL: https://www.we-online.com/redexpert/spec/744765124A?ad; Mount: Surface Mount; Operating Temperature Max: 125°C; Operating Temperature Min: -40°C; Packaging: Tape and Reel; Length: 1mm; Width: 0.55mm; Height: 0.5mm; DC Resistance Max: 0.3Ω; Inductance: 24nH; Rated Current: 0.4A
footprint WE-KI_0402
simulation model 0402_744765124A_24n
pins: 1, 2

## 744765124GA
designator L?, comment 24nH  (value not drawn)
WE-KI SMT Wire Wound Ceramic Inductor, size 0402, 24nH, 0.4A, 0.3Ω; Manufacturer Part Number: 744765124GA; Manufacturer: Wurth Elektronik; Case/Size Code: 0402; Inductance Tolerance: +/-2%; Q Factor: 25; Self Resonant Frequency: 2700MHz; Category: RF Inductors; Match Code: WE-KI; ComponentLink1Description: Website Link; ComponentLink1URL: https://www.we-online.com/redexpert/article/744765124GA?ad; ComponentLink2Description: Datasheet Link; ComponentLink2URL: https://www.we-online.com/redexpert/spec/744765124GA?ad; Mount: Surface Mount; Operating Temperature Max: 125°C; Operating Temperature Min: -40°C; Packaging: Tape and Reel; Length: 1mm; Width: 0.55mm; Height: 0.5mm; DC Resistance Max: 0.3Ω; Inductance: 24nH; Rated Current: 0.4A
footprint WE-KI_0402
simulation model 0402_744765124GA_24n
pins: 1, 2

## 744765127A
designator L?, comment 27nH  (value not drawn)
WE-KI SMT Wire Wound Ceramic Inductor, size 0402, 27nH, 0.4A, 0.298Ω; Manufacturer Part Number: 744765127A; Manufacturer: Wurth Elektronik; Case/Size Code: 0402; Inductance Tolerance: +/-5%; Q Factor: 26; Self Resonant Frequency: 2480MHz; Category: RF Inductors; Match Code: WE-KI; ComponentLink1Description: Website Link; ComponentLink1URL: https://www.we-online.com/redexpert/article/744765127A?ad; ComponentLink2Description: Datasheet Link; ComponentLink2URL: https://www.we-online.com/redexpert/spec/744765127A?ad; Mount: Surface Mount; Operating Temperature Max: 125°C; Operating Temperature Min: -40°C; Packaging: Tape and Reel; Length: 1mm; Width: 0.55mm; Height: 0.5mm; DC Resistance Max: 0.298Ω; Inductance: 27nH; Rated Current: 0.4A
footprint WE-KI_0402
simulation model 0402_744765127A_27n
pins: 1, 2

## 744765127GA
designator L?, comment 27nH  (value not drawn)
WE-KI SMT Wire Wound Ceramic Inductor, size 0402, 27nH, 0.4A, 0.298Ω; Manufacturer Part Number: 744765127GA; Manufacturer: Wurth Elektronik; Case/Size Code: 0402; Inductance Tolerance: +/-2%; Q Factor: 26; Self Resonant Frequency: 2480MHz; Category: RF Inductors; Match Code: WE-KI; ComponentLink1Description: Website Link; ComponentLink1URL: https://www.we-online.com/redexpert/article/744765127GA?ad; ComponentLink2Description: Datasheet Link; ComponentLink2URL: https://www.we-online.com/redexpert/spec/744765127GA?ad; Mount: Surface Mount; Operating Temperature Max: 125°C; Operating Temperature Min: -40°C; Packaging: Tape and Reel; Length: 1mm; Width: 0.55mm; Height: 0.5mm; DC Resistance Max: 0.298Ω; Inductance: 27nH; Rated Current: 0.4A
footprint WE-KI_0402
simulation model 0402_744765127GA_27n
pins: 1, 2

## 744765130A
designator L?, comment 30nH  (value not drawn)
WE-KI SMT Wire Wound Ceramic Inductor, size 0402, 30nH, 0.4A, 0.3Ω; Manufacturer Part Number: 744765130A; Manufacturer: Wurth Elektronik; Case/Size Code: 0402; Inductance Tolerance: +/-5%; Q Factor: 25; Self Resonant Frequency: 2350MHz; Category: RF Inductors; Match Code: WE-KI; ComponentLink1Description: Website Link; ComponentLink1URL: https://www.we-online.com/redexpert/article/744765130A?ad; ComponentLink2Description: Datasheet Link; ComponentLink2URL: https://www.we-online.com/redexpert/spec/744765130A?ad; Mount: Surface Mount; Operating Temperature Max: 125°C; Operating Temperature Min: -40°C; Packaging: Tape and Reel; Length: 1mm; Width: 0.55mm; Height: 0.5mm; DC Resistance Max: 0.3Ω; Inductance: 30nH; Rated Current: 0.4A
footprint WE-KI_0402
simulation model 0402_744765130A_30n
pins: 1, 2

## 744765130GA
designator L?, comment 30nH  (value not drawn)
WE-KI SMT Wire Wound Ceramic Inductor, size 0402, 30nH, 0.4A, 0.3Ω; Manufacturer Part Number: 744765130GA; Manufacturer: Wurth Elektronik; Case/Size Code: 0402; Inductance Tolerance: +/-2%; Q Factor: 25; Self Resonant Frequency: 2350MHz; Category: RF Inductors; Match Code: WE-KI; ComponentLink1Description: Website Link; ComponentLink1URL: https://www.we-online.com/redexpert/article/744765130GA?ad; ComponentLink2Description: Datasheet Link; ComponentLink2URL: https://www.we-online.com/redexpert/spec/744765130GA?ad; Mount: Surface Mount; Operating Temperature Max: 125°C; Operating Temperature Min: -40°C; Packaging: Tape and Reel; Length: 1mm; Width: 0.55mm; Height: 0.5mm; DC Resistance Max: 0.3Ω; Inductance: 30nH; Rated Current: 0.4A
footprint WE-KI_0402
simulation model 0402_744765130GA_30n
pins: 1, 2

## 744765133A
designator L?, comment 33nH  (value not drawn)
WE-KI SMT Wire Wound Ceramic Inductor, size 0402, 33nH, 0.4A, 0.35Ω; Manufacturer Part Number: 744765133A; Manufacturer: Wurth Elektronik; Case/Size Code: 0402; Inductance Tolerance: +/-5%; Q Factor: 24; Self Resonant Frequency: 2350MHz; Category: RF Inductors; Match Code: WE-KI; ComponentLink1Description: Website Link; ComponentLink1URL: https://www.we-online.com/redexpert/article/744765133A?ad; ComponentLink2Description: Datasheet Link; ComponentLink2URL: https://www.we-online.com/redexpert/spec/744765133A?ad; Mount: Surface Mount; Operating Temperature Max: 125°C; Operating Temperature Min: -40°C; Packaging: Tape and Reel; Length: 1mm; Width: 0.55mm; Height: 0.5mm; DC Resistance Max: 0.35Ω; Inductance: 33nH; Rated Current: 0.4A
footprint WE-KI_0402
simulation model 0402_744765133A_33n
pins: 1, 2

## 744765133GA
designator L?, comment 33nH  (value not drawn)
WE-KI SMT Wire Wound Ceramic Inductor, size 0402, 33nH, 0.4A, 0.35Ω; Manufacturer Part Number: 744765133GA; Manufacturer: Wurth Elektronik; Case/Size Code: 0402; Inductance Tolerance: +/-2%; Q Factor: 24; Self Resonant Frequency: 2350MHz; Category: RF Inductors; Match Code: WE-KI; ComponentLink1Description: Website Link; ComponentLink1URL: https://www.we-online.com/redexpert/article/744765133GA?ad; ComponentLink2Description: Datasheet Link; ComponentLink2URL: https://www.we-online.com/redexpert/spec/744765133GA?ad; Mount: Surface Mount; Operating Temperature Max: 125°C; Operating Temperature Min: -40°C; Packaging: Tape and Reel; Length: 1mm; Width: 0.55mm; Height: 0.5mm; DC Resistance Max: 0.35Ω; Inductance: 33nH; Rated Current: 0.4A
footprint WE-KI_0402
simulation model 0402_744765133GA_33n
pins: 1, 2

## 744765136A
designator L?, comment 36nH  (value not drawn)
WE-KI SMT Wire Wound Ceramic Inductor, size 0402, 36nH, 0.32A, 0.403Ω; Manufacturer Part Number: 744765136A; Manufacturer: Wurth Elektronik; Case/Size Code: 0402; Inductance Tolerance: +/-5%; Q Factor: 26; Self Resonant Frequency: 2320MHz; Category: RF Inductors; Match Code: WE-KI; ComponentLink1Description: Website Link; ComponentLink1URL: https://www.we-online.com/redexpert/article/744765136A?ad; ComponentLink2Description: Datasheet Link; ComponentLink2URL: https://www.we-online.com/redexpert/spec/744765136A?ad; Mount: Surface Mount; Operating Temperature Max: 125°C; Operating Temperature Min: -40°C; Packaging: Tape and Reel; Length: 1mm; Width: 0.55mm; Height: 0.5mm; DC Resistance Max: 0.403Ω; Inductance: 36nH; Rated Current: 0.32A
footprint WE-KI_0402
simulation model 0402_744765136A_36n
pins: 1, 2

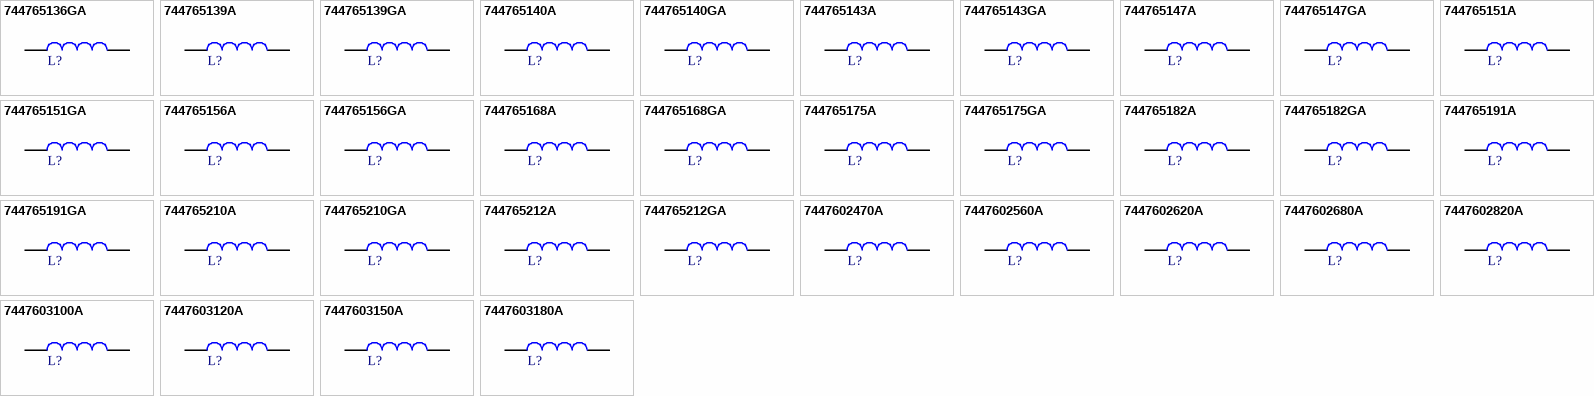
[diagram p7: symbols 744765136GA to 7447603180A]

## 744765136GA
designator L?, comment 36nH  (value not drawn)
WE-KI SMT Wire Wound Ceramic Inductor, size 0402, 36nH, 0.32A, 0.403Ω; Manufacturer Part Number: 744765136GA; Manufacturer: Wurth Elektronik; Case/Size Code: 0402; Inductance Tolerance: +/-2%; Q Factor: 26; Self Resonant Frequency: 2320MHz; Category: RF Inductors; Match Code: WE-KI; ComponentLink1Description: Website Link; ComponentLink1URL: https://www.we-online.com/redexpert/article/744765136GA?ad; ComponentLink2Description: Datasheet Link; ComponentLink2URL: https://www.we-online.com/redexpert/spec/744765136GA?ad; Mount: Surface Mount; Operating Temperature Max: 125°C; Operating Temperature Min: -40°C; Packaging: Tape and Reel; Length: 1mm; Width: 0.55mm; Height: 0.5mm; DC Resistance Max: 0.403Ω; Inductance: 36nH; Rated Current: 0.32A
footprint WE-KI_0402
simulation model 0402_744765136GA_36n
pins: 1, 2